# Altium schematic symbol library Base_board_LPC845_R00.SchLib: 8 symbols
Pins are listed as number, name and electrical type; pins without a type are passive.

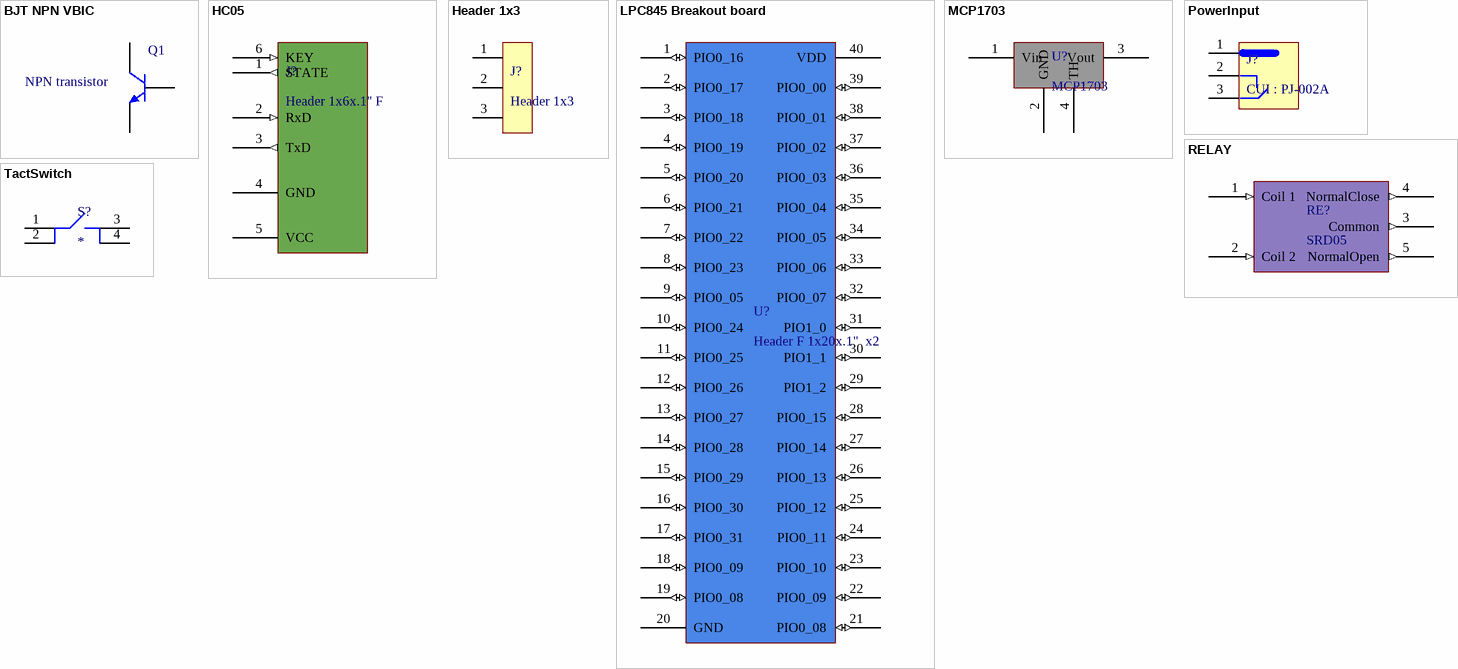
[diagram p0: symbols BJT NPN VBIC to TactSwitch]

## BJT NPN VBIC
designator Q1, comment NPN transistor
Bipolar NPN 3 Pins Transistor VBIC Model; SimulationGenericComponent: True; AFN: 1; AJC: -0.5; ART: 0.1; AVC1: 0; EA: 1.12; FC: 0.9; IBBE: 1e-06; IBCI: 1e-16; IBEI: 1e-18; MC: 0.33; NCN: 2; NKF: 0.5; PC: 0.75; TNOM: 27; VERS: 1.2; XII: 3; AJE: -0.5; AJS: -0.5; AVC2: 0; BFN: 1; CBCO: 0; CBEO: 0; CCSO: 0; CJC: 0; CJCP: 0; CJE: 0; CJEP: 0; CTH: 0; DEAR: 0; EAIC: 1.12; EAIE: 1.12; EAIS: 1.12; EANC: 1.12; EANE: 1.12; EANS: 1.12; EAP: 1.12; EBBE: 0; GAMM: 0; HRCF: 1; IBCIP: 0; IBCN: 0; IBCNP: 0; IBEIP: 0; IBEN: 0; IBENP: 0; IKF: 0; IKP: 0; IKR: 0; IS: 1e-16; ISP: 0; ISRR: 1; ITF: 0; KFN: 0; ME: 0.33; MS: 0.33; NBBE: 1; NCI: 1; NCIP: 1; NCNP: 2; NEI: 1; NEN: 2; NF: 1; NFP: 1; NR: 1; PE: 0.75; PS: 0.75; QBM: 0; QCO: 0; QTF: 0; RBI: 0.1; RBP: 0.1; RBX: 0; RCI: 0.1; RCX: 0; RE: 0; RS: 0; RTH: 0; TAVC: 0; TD: 0; TF: 0; TNBBE: 0; TNF: 0; TR: 0; TVBBE1: 0; TVBBE2: 0; VBBE: 0; VEF: 0; VER: 0; VO: 0; VREF: 0; VRT: 0; VTF: 0; WBE: 1; WSP: 1; XIKF: 0; XIN: 3; XIS: 3; XISR: 0; XRBI: 0; XRBP: 0; XRBX: 0; XRCI: 0; XRCX: 0; XRE: 0; XRS: 0; XTF: 0; XVO: 0
simulation model NPN_VBIC (NGSPICE_NPN_MOD_GUMMEL_POON)
pins: 1 B, 2 E, 3 C

## HC05
designator J?, comment Header 1x6x.1'' F
Bluetooth
pins: 1 STATE (out), 2 RxD (in), 3 TxD (out), 4 GND (power), 5 VCC (power), 6 KEY (in)

## Header 1x3
designator J?
Header
pins: 1, 2, 3

## LPC845 Breakout board
designator U?, comment Header F 1x20x.1"  x2
Stick
pins: 1 PIO0_16 (io), 2 PIO0_17 (io), 3 PIO0_18 (io), 4 PIO0_19 (io), 5 PIO0_20 (io), 6 PIO0_21 (io), 7 PIO0_22 (io), 8 PIO0_23 (io), 9 PIO0_05 (io), 10 PIO0_24 (io), 11 PIO0_25 (io), 12 PIO0_26 (io), 13 PIO0_27 (io), 14 PIO0_28 (io), 15 PIO0_29 (io), 16 PIO0_30 (io), 17 PIO0_31 (io), 18 PIO0_09 (io), 19 PIO0_08 (io), 20 GND (power), 21 PIO0_08 (io), 22 PIO0_09 (io), 23 PIO0_10 (io), 24 PIO0_11 (io), 25 PIO0_12 (io), 26 PIO0_13 (io), 27 PIO0_14 (io), 28 PIO0_15 (io), 29 PIO1_2 (io), 30 PIO1_1 (io), 31 PIO1_0 (io), 32 PIO0_07 (io), 33 PIO0_06 (io), 34 PIO0_05 (io), 35 PIO0_04 (io), 36 PIO0_03 (io), 37 PIO0_02 (io), 38 PIO0_01 (io), 39 PIO0_00 (io), 40 VDD (power)

## MCP1703
designator U?
LDO
pins: 1 Vin (power), 2 GND (power), 3 Vout (power), 4 TH

## PowerInput
designator J?, comment CUI : PJ-002A
DC Power Jack
pins: 1, 2, 3

## RELAY
designator RE?, comment SRD05
Relay
pins: 1 Coil 1 (in), 2 Coil 2 (in), 3 Common (out), 4 NormalClose (out), 5 NormalOpen (out)

## TactSwitch
designator S?
Tact Switch
pins: 1, 2, 3, 4